# Altium schematic symbol library Passives.SCHLIB: 10 symbols
Pins are listed as number, name and electrical type; pins without a type are passive.

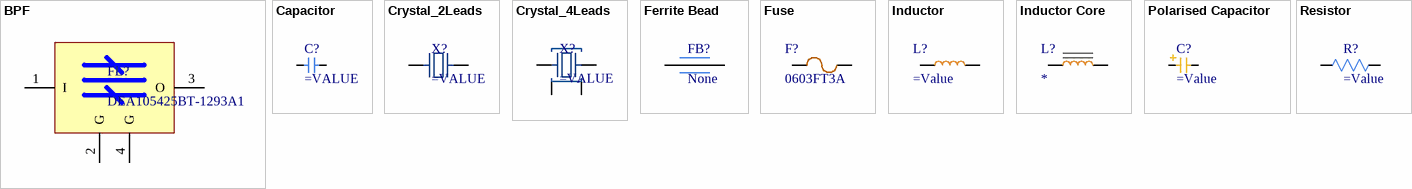
[diagram p0: symbols BPF to Resistor]

## BPF
designator FL?, comment DEA105425BT-1293A1
Band Pass Filter; Value: DEA105425BT-1293A1; Full Part Number: DEA105425BT-1293A1
footprint DEA105425BT-1293A1
pins: 1 I, 2 G, 3 O, 4 G

## Capacitor
designator C?
SMT Capacitor
footprint CAP 0201_0603 (Chip Capacitor, 2-Leads, Body 0.60x0.30mm, IPC Medium Density)
footprint CAP 0201_0603 RF (Chip Capacitor, 2-Leads, Body 0.60x0.30mm, IPC High Density)
footprint CAP 0402_1005 (Chip Capacitor, 2-Leads, Body 1.02x0.51mm, IPC Medium Density)
footprint CAP 0603_1608 (Chip Capacitor, 2-Leads, Body 1.60x0.80mm, IPC Medium Density)
footprint CAP 0805_2012 (Chip Capacitor, 2-Leads, Body 2.00x1.20mm, IPC Medium Density)
footprint CAP 0805_2012 RF (Chip Capacitor, 2-Leads, Body 2.00x1.20mm, IPC High Density)
footprint CAP 01005_0402 (Chip Capacitor, 2-Leads, Body 0.30x0.15mm, IPC Medium Density)
footprint CAP 1206_3216 (Chip Capacitor, 2-Leads, Body 3.25x1.60mm, IPC Medium Density)
footprint CAP 1206_3216 - 0.8MM (Chip Capacitor, 2-Leads, Body 3.25x1.60mm, IPC Medium Density)
footprint CAP 1206_3216 - 1.0MM (Chip Capacitor, 2-Leads, Body 3.25x1.60mm, IPC Medium Density)
footprint CAP 1206_3216 - 1.2MM (Chip Capacitor, 2-Leads, Body 3.25x1.60mm, IPC Medium Density)
footprint CAP 1210_3225 - 1.4MM (Chip Capacitor, 2-Leads, Body 3.20x2.50mm, IPC Medium Density)
footprint CAP 1210_3225 - 1.6MM (Chip Capacitor, 2-Leads, Body 3.20x2.50mm, IPC Medium Density)
footprint CAP 1210_3225 - 1.8MM (Chip Capacitor, 2-Leads, Body 3.20x2.50mm, IPC Medium Density)
footprint CAP 1210_3225 - 2.0MM (Chip Capacitor, 2-Leads, Body 3.20x2.50mm, IPC Medium Density)
footprint CAP 1210_3225 - 2.2MM (Chip Capacitor, 2-Leads, Body 3.20x2.50mm, IPC Medium Density)
footprint CAP 1210_3225 - 2.8MM (Chip Capacitor, 2-Leads, Body 3.20x2.50mm, IPC Medium Density)
footprint CAP 1812_4532 1.1MM (Chip Capacitor, 2-Leads, Body 4.50x3.20mm, IPC Medium Density)
footprint CAP 1812_4532 1.35MM (Chip Capacitor, 2-Leads, Body 4.50x3.20mm, IPC Medium Density)
footprint CAP 1812_4532 1.5MM (Chip Capacitor, 2-Leads, Body 4.50x3.20mm, IPC Medium Density)
footprint CAP 1812_4532 1.75MM (Chip Capacitor, 2-Leads, Body 4.50x3.20mm, IPC Medium Density)
footprint CAP 1812_4532 2.00MM (Chip Capacitor, 2-Leads, Body 4.50x3.20mm, IPC Medium Density)
footprint CAP 1812_4532 2.20MM (Chip Capacitor, 2-Leads, Body 4.50x3.20mm, IPC Medium Density)
footprint CAP 1812_4532 2.55MM (Chip Capacitor, 2-Leads, Body 4.50x3.20mm, IPC Medium Density)
footprint CAP 1812_4532 2.8MM (Chip Capacitor, 2-Leads, Body 4.50x3.20mm, IPC Medium Density)
footprint CAP 1812_4532 3.5MM (Chip Capacitor, 2-Leads, Body 4.50x3.20mm, IPC Medium Density)
footprint CAP 2220_5650 1.5MM (Chip Capacitor, 2-Leads, Body 5.70x5.00mm, IPC Medium Density)
footprint CAP 2220_5650 2.0MM (Chip Capacitor, 2-Leads, Body 5.70x5.00mm, IPC Medium Density)
footprint CAP 2220_5650 2.5MM (Chip Capacitor, 2-Leads, Body 5.70x5.00mm, IPC Medium Density)
footprint CAP 2220_5650 3.0MM (Chip Capacitor, 2-Leads, Body 5.70x5.00mm, IPC Medium Density)
footprint CAP 2220_5650 3.3MM (Chip Capacitor, 2-Leads, Body 5.70x5.00mm, IPC Medium Density)
footprint CAP 2220_5650 4.2MM (Chip Capacitor, 2-Leads, Body 5.70x5.00mm, IPC Medium Density)
pins: 1, 2

## Crystal_2Leads
designator X?
SMD Crystal
footprint ABRACON ABLS (Crystal, 2-Leads, Body 4.70x11.40mm, Pitch 8.80mm, IPC Medium Density)
footprint ABRACON ABS06 (Crystal, 2-Leads, Body 1.20x2.00mm, Pitch 1.50mm, IPC Medium Density)
footprint ABRACON ABS07 (Crystal, 2-Leads, Body 3.20x1.50mm, IPC Medium Density)
footprint NDK NX5032GA (Crystal, 2-Leads, Body 5.00x3.20mm, IPC Medium Density)
footprint ABM3-26.973MHZ-12-B2-T
footprint FP-CM8V-T1A-32_768KHZ-12-MFG
pins: 1, 2

## Crystal_4Leads
designator X?
footprint EPSON FA-128 (4-SMD, Body 2.00X1.60mm)
footprint ABRACON ABS25; pin to pad 3>4 4>3
footprint ABRACON ABM8G (Crystal, 4-Leads, Body 2.50x3.20mm, Pitch 2.20mm, IPC Medium Density)
pins: 1, 2, 3, 4

## Ferrite Bead
designator FB?, comment None
Ferrite Core; Full Part Number: None; Value: None
footprint FER 0201_0603 (Chip Inductor, 2-Leads, Body 0.60x0.30mm, IPC Medium Density)
footprint FER 0402_1005 (Chip Ferrite, 2-Leads, Body 1.02x0.51mm, IPC Medium Density)
footprint FER 0603_1608 (Chip Ferrite, 2-Leads, Body 1.60x0.80mm, IPC Medium Density)
footprint FER 0805_2012 (Chip Ferrite, 2-Leads, Body 2.00x1.20mm, IPC Medium Density)
footprint FER 1206_3216 (Chip Ferrite, 2-Leads, Body 3.20x1.60mm, IPC Medium Density)
footprint FER 1806_4516 (Chip Ferrite, 2-Leads, Body 4.50x1.60mm, IPC Medium Density)
pins: 1, 2

## Fuse
designator F?, comment 0603FT3A
Manufacturer: SkyGate; Value: 3A Fastblow; Full Part Number: 0603FT3A
footprint FUSE 0603_1608 (Chip Resistor, 2-Leads, Body 1.60x0.80mm, IPC High Density)
pins: 1, 2

## Inductor
designator L?
SMT Inductor
footprint IND 0201_0603 (Inductor, 2-Leads, Body 0.60x0.30mm, IPC Medium Density)
footprint IND 0402_1005 (Inductor, 2-Leads, Body 1.02x0.51mm, IPC Medium Density)
footprint IND 0402_1005 RF WW (Chip Inductor, 2-Leads, Body 1.00x0.50mm, IPC High Density)
footprint IND 0603_1608 RF WW (Chip Inductor, 2-Leads, Body 1.65x0.99mm, IPC Medium Density)
footprint IND 0806_2016 (Chip Capacitor, 2-Leads, Body 2.00x1.20mm, IPC Medium Density)
footprint IND 1008_2520 (Chip Inductance, 2-leads, Body 2.5x2.1mm, IPC Medium Density)
pins: 1, 2

## Inductor Core
designator L?
SMD Inductor with Core; Value: *; Full Part Number: *
footprint IND_SRN2012T_BRN
pins: 1, 2

## Polarised Capacitor
designator C?
SMT Polarised Capacitor
footprint CAP AL 10.3MM (Aluminum Electrolytic Capacitor, Body 10.30x10.30x10.50mm, IPC Low Density)
footprint CAP ALSMD 4.3MM H5.4MM (Aluminum Electrolytic Capacitor, Body 4.30x4.30x5.40mm, IPC Low Density)
footprint CAP ALSMD 5.3MM H5.4MM (Aluminum Electrolytic Capacitor, Body 5.30x5.30x5.40mm, IPC Low Density)
footprint CAP ALSMD 6.6MM H5.4MM (Aluminum Electrolytic Capacitor, Body 6.60x6.60x5.40mm, IPC Low Density)
footprint CAP ALSMD 8.3MM H10.5MM (Aluminum Electrolytic Capacitor, Body 8.30x8.30x10.50mm, IPC Low Density)
footprint CAP AL TH D8 L3.5 H12.5 (8MM Diameter, 3.5MM Lead Spacing Aluminium Capacitor)
footprint CAP AL TH D10 L5 H12.5 (10MM Diameter, 5MM Lead Spacing Aluminium Capacitor)
footprint CAP AL TH D10 L5 H14.5 (10MM Diameter, 5MM Lead Spacing Aluminium Capacitor)
footprint CAP AL TH D10 L5 H17.5 (10MM Diameter, 5MM Lead Spacing Aluminium Capacitor)
footprint CAP AL TH D10 L5 H22 (10MM Diameter, 5MM Lead Spacing Aluminium Capacitor)
footprint CAP AL TH D10 L5 H30 (10MM Diameter, 5MM Lead Spacing Aluminium Capacitor)
footprint CAP AL TH D12.5 L5 H14 (12.5MM Diameter, 5MM Lead Spacing Aluminium Capacitor)
footprint CAP AL TH D12.5 L5 H15 (12.5MM Diameter, 5MM Lead Spacing Aluminium Capacitor)
footprint CAP AL TH D12.5 L5 H16.5 (12.5MM Diameter, 5MM Lead Spacing Aluminium Capacitor)
footprint CAP AL TH D12.5 L5 H17.5 (12.5MM Diameter, 5MM Lead Spacing Aluminium Capacitor)
footprint CAP AL TH D12.5 L5 H20 (12.5MM Diameter, 5MM Lead Spacing Aluminium Capacitor)
footprint CAP AL TH D16 L7.5 H16.5 (16MM Diameter, 7.5MM Lead Spacing Aluminium Capacitor)
footprint CAP AL TH D16 L7.5 H20 (16MM Diameter, 7.5MM Lead Spacing Aluminium Capacitor)
footprint CAP AL TH D16 L7.5 H22 (16MM Diameter, 7.5MM Lead Spacing Aluminium Capacitor)
footprint CAP AL TH D22 L10 H14.5 (16MM Diameter, 7.5MM Lead Spacing Aluminium Capacitor)
footprint CAP AL TH D22 L10 H33 (16MM Diameter, 7.5MM Lead Spacing Aluminium Capacitor)
footprint CAP AL TH D22 L10 H43 (16MM Diameter, 7.5MM Lead Spacing Aluminium Capacitor)
footprint CAP AL TH D25 L12.5 H32 (16MM Diameter, 7.5MM Lead Spacing Aluminium Capacitor)
footprint CAP POL 1206_3216 (Molded Capacitor, 2-Leads, Body 3.20x1.6mm, IPC Medium Density)
footprint CAP POL 1411_3528 (Molded Capacitor, 2-Leads, Body 3.50x2.80mm, IPC Medium Density)
footprint CAP POL 2917_7343 (Molded Capacitor, 2-Leads, Body 7.30x4.30mm, IPC Medium Density)
pins: 1, 2

## Resistor
designator R?
SMT Resistor
footprint RES 0201_0603 (Chip Resistor, 2-Leads, Body 0.60x0.30mm, IPC Medium Density)
footprint RES 0402_1005 (Chip Resistor, 2-Leads, Body 1.0x0.5mm, IPC Medium Density)
footprint RES 0402_1005 RF (Chip Resistor, 2-Leads, Body 1.0x0.5mm, IPC High Density)
footprint RES 0603_1608 (Chip Resistor, 2-Leads, Body 1.60x0.80mm, IPC Medium Density)
footprint RES 0603_1608 RF (Chip Resistor, 2-Leads, Body 1.60x0.80mm, IPC High Density)
footprint RES 0805_2012 (Chip Resistor, 2-Leads, Body 2.00x1.25mm, IPC Medium Density)
footprint RES 0805_2012 RF (Chip Resistor, 2-Leads, Body 2.00x1.25mm, IPC High Density)
footprint RES 1206_3216 (Chip Resistor, 2-Leads, Body 3.13x1.55mm, IPC Medium Density)
footprint RES 1206_3216 RF (Chip Resistor, 2-Leads, Body 3.13x1.55mm, IPC High Density)
footprint RES 1210_3225 (Chip Resistor, 2-Leads, Body 3.1x2.6mm, IPC Medium Density)
footprint RES 2512_6432 (Chip Resistor, 2-Leads, Body 6.30x3.15mm, IPC Medium Density)
footprint RTD 0603_1608 (1 kOhms RTD Platinum ?.3% ?850ppm/캜 -50캜 ~ 150캜, 2-Leads, Body 1.70x0.90mm, IPC Medium Density)
footprint RTD 0805_2012 (1 kOhms RTD Platinum ?.3% ?850ppm/캜 -50캜 ~ 130캜, 2-Leads, Body 2.30x1.40mm, IPC Medium Density)
footprint RTD 1206_3216 (100 Ohms RTD Platinum ?.3% ?850ppm/캜 -50캜 ~ 130캜, 2-Leads, Body 3.20x1.60mm, IPC Medium Density)
footprint STACKPOLE CSR0402 (Chip Resistor, 2-Leads, Body 1.0x0.5mm, IPC Medium Density)
footprint STACKPOLE CSR0603 (Chip Resistor, 2-Leads, Body 1.60x0.80mm, IPC Medium Density)
footprint STACKPOLE CSR0805 (Chip Resistor, 2-Leads, Body 2.00x1.25mm, IPC Medium Density)
footprint STACKPOLE CSR1206 (Chip Resistor, 2-Leads, Body 3.13x1.55mm, IPC Medium Density)
footprint STACKPOLE CSR1210 (Chip Resistor, 2-Leads, Body 3.1x2.6mm, IPC Medium Density)
footprint STACKPOLE CSR2010 (Chip Resistor, 2-Leads, Body 5.00x2.54mm, IPC Medium Density)
footprint STACKPOLE CSR2512 (Chip Resistor, 2-Leads, Body 6.40x3.20mm, IPC Medium Density)
footprint VISHAY WSHP2818 (Chip Resistor, 2-Leads, Body 7.10x4.60mm, IPC Medium Density)
footprint RES 0201_0603 RF (Chip Resistor, 2-Leads, Body 0.60x0.30mm, IPC Medium Density)
pins: 1, 2